# Altium footprint library e-lib.PcbLib: 11 footprints
Each footprint in its own frame and in the unit in brackets; x right, y up, seen from the top. Pads: shape width x height; smd on the part's side, far side on the other; paste and mask are expansions set on the pad; w line width, h text height; cw(c..) or ccw(c..) is an arc to the next point about the centre after c.
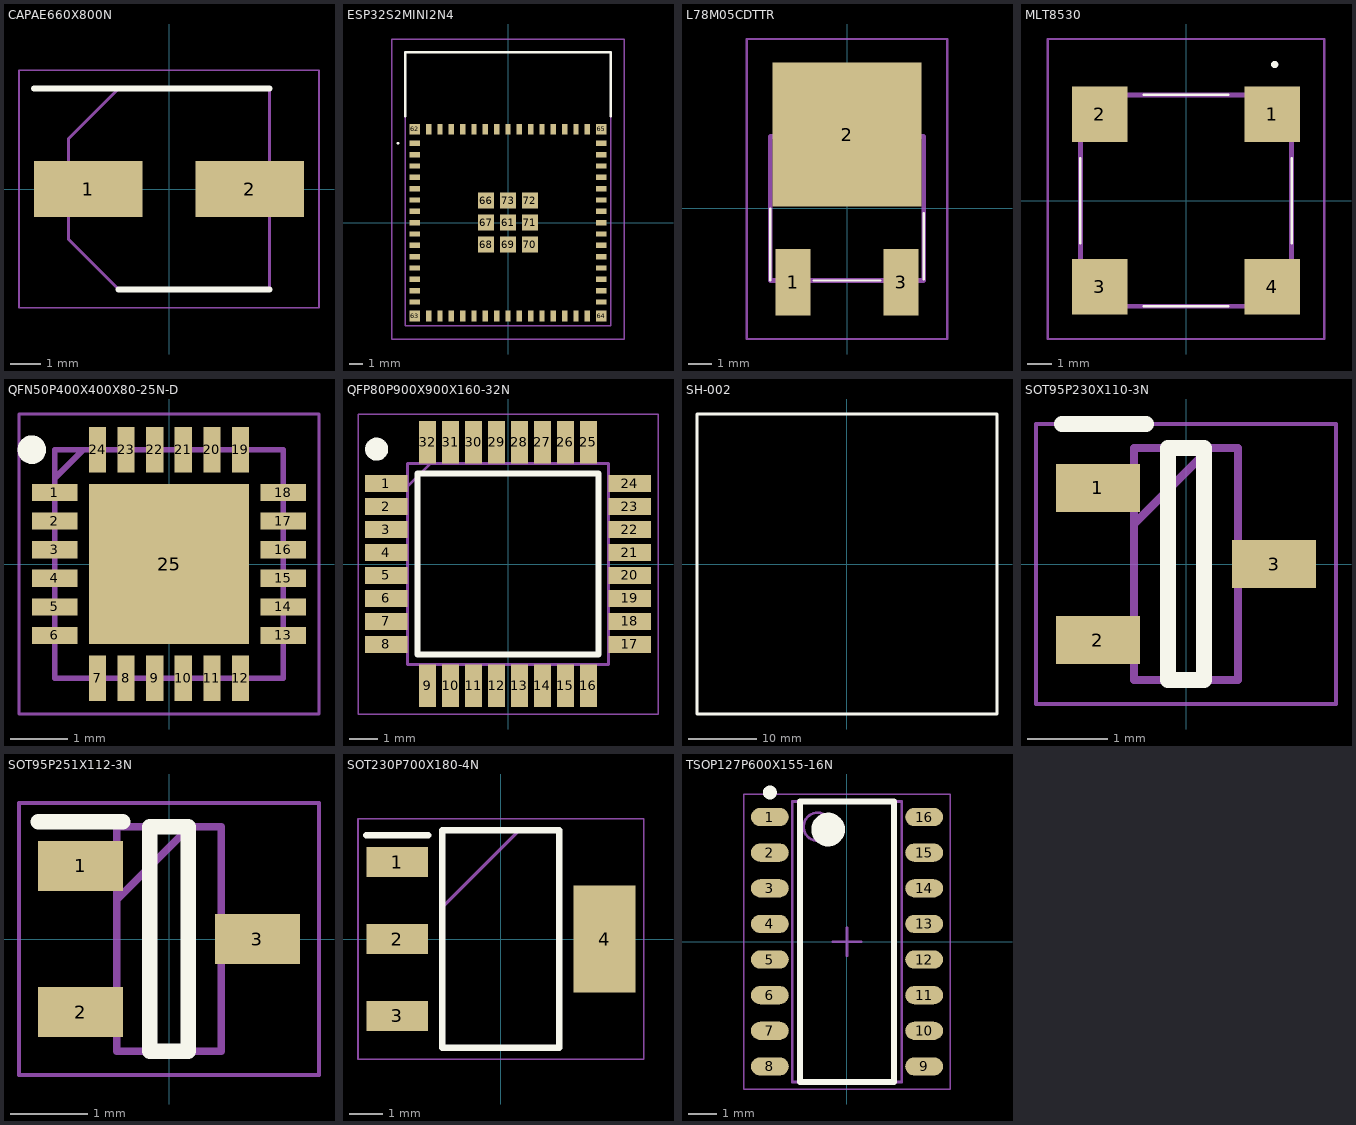
[diagram p0: the footprints below, top view; thin cyan lines are the x and y axes]

## CAPAE660X800N [mm]
pads (2):
  rect 3.55x1.85 smd: 1(-2.65,0) 2(2.65,0)
Top Overlay:
  lines w0.2: -4.425,3.3 3.3,3.3 ; -1.65,-3.3 3.3,-3.3
Mechanical 13:
  lines w0.1: -3.3,-1.65 -3.3,1.65 -1.65,3.3 3.3,3.3 3.3,-3.3 -1.65,-3.3 -3.3,-1.65
Mechanical 15:
  lines w0.05: -4.925,-3.9 4.925,-3.9 4.925,3.9 -4.925,3.9 -4.925,-3.9
3D body "VZH-470M1HTR-0607.stp": height 8, standoff 0, extent -3.7,-3.4 3.7,3.4

## ESP32S2MINI2N4 [mm]
pads (73):
  rect 0.8x0.4 smd: 1(-7,5.95) 2(-7,5.1) 3(-7,4.25) 4(-7,3.4) 5(-7,2.55) 6(-7,1.7) 7(-7,0.85) 8(-7,0) 9(-7,-0.85) 10(-7,-1.7) 11(-7,-2.55) 12(-7,-3.4) 13(-7,-4.25) 14(-7,-5.1) 15(-7,-5.95) 31(7,-5.95) 32(7,-5.1) 33(7,-4.25) 34(7,-3.4) 35(7,-2.55) 36(7,-1.7) 37(7,-0.85) 38(7,0) 39(7,0.85) 40(7,1.7) 41(7,2.55) 42(7,3.4) 43(7,4.25) 44(7,5.1) 45(7,5.95)
  rect 0.4x0.8 smd: 16(-5.95,-7) 17(-5.1,-7) 18(-4.25,-7) 19(-3.4,-7) 20(-2.55,-7) 21(-1.7,-7) 22(-0.85,-7) 23(0,-7) 24(0.85,-7) 25(1.7,-7) 26(2.55,-7) 27(3.4,-7) 28(4.25,-7) 29(5.1,-7) 30(5.95,-7) 46(5.95,7) 47(5.1,7) 48(4.25,7) 49(3.4,7) 50(2.55,7) 51(1.7,7) 52(0.85,7) 53(0,7) 54(-0.85,7) 55(-1.7,7) 56(-2.55,7) 57(-3.4,7) 58(-4.25,7) 59(-5.1,7) 60(-5.95,7)
  rect 1.2x1.2 smd: 61(0,0) 66(-1.65,1.65) 67(-1.65,0) 68(-1.65,-1.65) 69(0,-1.65) 70(1.65,-1.65) 71(1.65,0) 72(1.65,1.65) 73(0,1.65)
  rect 0.8x0.8 smd: 62(-7,7) 63(-7,-7) 64(7,-7) 65(7,7)
Top Overlay:
  lines w0.1: -8.3,5.95 cw(c-8.25,5.95) -8.2,5.95 cw(c-8.25,5.95) -8.3,5.95
  lines w0.2: -7.7,8 -7.7,12.775 7.7,12.775 7.7,8
Mechanical 13:
  lines w0.1: -7.7,-7.725 7.7,-7.725 7.7,12.775 -7.7,12.775 -7.7,-7.725
Mechanical 15:
  lines w0.1: -8.7,-8.725 8.7,-8.725 8.7,13.775 -8.7,13.775 -8.7,-8.725
3D body "ESP32-S2-MINI-2-N4.stp": height 2.41, standoff 0, extent -7.7,-7.73 7.7,12.77

## L78M05CDTTR [mm]
pads (3):
  rect 1.5x2.8 smd: 1(-2.286,-3.125) 3(2.286,-3.125)
  rect 6.3x6.1 smd: 2(0,3.125)
Top Overlay:
  lines w0.1: -3.25,-3.05 -3.25,0 ; -1.4,-3.05 1.4,-3.05 ; 3.25,-3 3.25,-0.2
Mechanical 13:
  lines w0.2: -3.25,-3.05 -3.25,3.05 3.25,3.05 3.25,-3.05 -3.25,-3.05
Mechanical 15:
  lines w0.1: -4.25,-5.525 -4.25,7.175 4.25,7.175 4.25,-5.525 -4.25,-5.525
3D body "L78M05CDT-TR.stp": height 3.24, standoff 0, extent -3.365,-4.385 3.365,6.04

## MLT8530 [mm]
pads (4):
  rect 2.3x2.3 smd: 1(3.55,3.55) 2(-3.55,3.55) 3(-3.55,-3.55) 4(3.55,-3.55)
Top Overlay:
  lines w0.1: -4.35,-1.75 -4.35,1.75 -4.35,-1.75 ; -1.75,-4.35 1.75,-4.35 -1.75,-4.35 ; -1.75,4.35 1.75,4.35 -1.75,4.35 ; 4.35,-1.75 4.35,1.75 4.35,-1.75
  lines w0.2: 3.6,5.6 ccw(c3.65,5.6) 3.7,5.6 ; 3.6,5.6 cw(c3.65,5.6) 3.7,5.6 ; 3.6,5.6 ccw(c3.65,5.6) 3.7,5.6
Mechanical 13:
  lines w0.2: -4.35,-4.35 -4.35,4.35 4.35,4.35 4.35,-4.35 -4.35,-4.35
Mechanical 15:
  lines w0.1: -5.7,-5.7 -5.7,6.65 5.7,6.65 5.7,-5.7 -5.7,-5.7
3D body "MLT-8530.stp": height 3.1, standoff 0, extent -4.47,-4.47 4.47,4.47

## QFN50P400X400X80-25N-D [mm]
pads (25):
  rect 0.8x0.3 smd: 1(-2,1.25) 2(-2,0.75) 3(-2,0.25) 4(-2,-0.25) 5(-2,-0.75) 6(-2,-1.25) 13(2,-1.25) 14(2,-0.75) 15(2,-0.25) 16(2,0.25) 17(2,0.75) 18(2,1.25)
  rect 0.3x0.8 smd: 7(-1.25,-2) 8(-0.75,-2) 9(-0.25,-2) 10(0.25,-2) 11(0.75,-2) 12(1.25,-2) 19(1.25,2) 20(0.75,2) 21(0.25,2) 22(-0.25,2) 23(-0.75,2) 24(-1.25,2)
  rect 2.8x2.8 smd: 25(0,0)
Top Overlay:
  circle w0.25: c-2.4,2 r0.125
Mechanical 13:
  lines w0.1: -2,1.5 -1.5,2 ; -2,-2 -2,2 2,2 2,-2 -2,-2
Mechanical 15:
  lines w0.05: -2.625,-2.625 -2.625,2.625 2.625,2.625 2.625,-2.625 -2.625,-2.625
3D body "CP2104-F03-GMR.stp": height 0.8, standoff 0, extent -2.05,-2.05 2.05,2.05

## QFP80P900X900X160-32N [mm]
pads (32):
  rect 1.475x0.6 smd: 1(-4.238,2.8) 2(-4.238,2) 3(-4.238,1.2) 4(-4.238,0.4) 5(-4.238,-0.4) 6(-4.238,-1.2) 7(-4.238,-2) 8(-4.238,-2.8) 17(4.238,-2.8) 18(4.238,-2) 19(4.238,-1.2) 20(4.238,-0.4) 21(4.238,0.4) 22(4.238,1.2) 23(4.238,2) 24(4.238,2.8)
  rect 0.6x1.475 smd: 9(-2.8,-4.238) 10(-2,-4.238) 11(-1.2,-4.238) 12(-0.4,-4.238) 13(0.4,-4.238) 14(1.2,-4.238) 15(2,-4.238) 16(2.8,-4.238) 25(2.8,4.238) 26(2,4.238) 27(1.2,4.238) 28(0.4,4.238) 29(-0.4,4.238) 30(-1.2,4.238) 31(-2,4.238) 32(-2.8,4.238)
Top Overlay:
  circle w0.4: c-4.575,4 r0.2
  lines w0.2: -3.15,-3.15 3.15,-3.15 3.15,3.15 -3.15,3.15 -3.15,-3.15
Mechanical 13:
  lines w0.1: -3.5,2.7 -2.7,3.5 ; -3.5,-3.5 3.5,-3.5 3.5,3.5 -3.5,3.5 -3.5,-3.5
Mechanical 15:
  lines w0.05: -5.225,-5.225 5.225,-5.225 5.225,5.225 -5.225,5.225 -5.225,-5.225
3D body "STM32F030K6T6.stp": height 1.6, standoff 0, extent -4.5,-4.5 4.5,4.5

## SH-002 [mm]
Top Overlay:
  lines w0.5: -22,-22 22,-22 22,22 -22,22 -22,-22
3D body "cooler.STEP": height 9.25, standoff 0, extent -22,-22 22,22

## SOT95P230X110-3N [mm]
pads (3):
  rect 1.05x0.6 smd: 1(-1.1,0.95) 2(-1.1,-0.95) 3(1.1,0)
Top Overlay:
  lines w0.2: -1.55,1.75 -0.5,1.75 ; -0.225,-1.45 -0.225,1.45 0.225,1.45 0.225,-1.45 -0.225,-1.45
Mechanical 13:
  lines w0.1: -0.65,0.5 0.3,1.45 ; -0.65,-1.45 -0.65,1.45 0.65,1.45 0.65,-1.45 -0.65,-1.45
Mechanical 15:
  lines w0.05: -1.875,-1.75 -1.875,1.75 1.875,1.75 1.875,-1.75 -1.875,-1.75
3D body "BSS138P,215.stp": height 0.95, standoff 0, extent -1.201,-1.448 1.199,1.452

## SOT95P251X112-3N [mm]
pads (3):
  rect 1.1x0.65 smd: 1(-1.15,0.95) 2(-1.15,-0.95) 3(1.15,0)
Top Overlay:
  lines w0.2: -1.7,1.525 -0.6,1.525 ; -0.25,-1.46 -0.25,1.46 0.25,1.46 0.25,-1.46 -0.25,-1.46
Mechanical 13:
  lines w0.1: -0.68,0.51 0.27,1.46 ; -0.68,-1.46 -0.68,1.46 0.68,1.46 0.68,-1.46 -0.68,-1.46
Mechanical 15:
  lines w0.05: -1.95,-1.77 -1.95,1.77 1.95,1.77 1.95,-1.77 -1.95,-1.77
3D body "FDN360P.stp": height 1.12, standoff 0, extent -1.255,-1.46 1.255,1.46

## SOT230P700X180-4N [mm]
pads (4):
  rect 1.85x0.9 smd: 1(-3.1,2.3) 2(-3.1,0) 3(-3.1,-2.3)
  rect 1.85x3.2 smd: 4(3.1,0)
Top Overlay:
  lines w0.2: -4.025,3.1 -2.175,3.1 ; -1.75,-3.25 -1.75,3.25 1.75,3.25 1.75,-3.25 -1.75,-3.25
Mechanical 13:
  lines w0.1: -1.75,0.95 0.55,3.25 ; -1.75,-3.25 -1.75,3.25 1.75,3.25 1.75,-3.25 -1.75,-3.25
Mechanical 15:
  lines w0.05: -4.275,-3.6 -4.275,3.6 4.275,3.6 4.275,-3.6 -4.275,-3.6
3D body "AZ1117CH-3.3TRG1.stp": height 1.8, standoff 0, extent -3.5,-3.25 3.5,3.25

## TSOP127P600X155-16N [mm] "TSOP, 16-Leads, Body 10.00x3.90mm, Pitch 1.27mm, IPC Medium Density"
height 1.55
pads (16):
  oval 1.35x0.65 smd: 1(-2.75,4.445) 2(-2.75,3.175) 3(-2.75,1.905) 4(-2.75,0.635) 5(-2.75,-0.635) 6(-2.75,-1.905) 7(-2.75,-3.175) 8(-2.75,-4.445) 9(2.75,-4.445) 10(2.75,-3.175) 11(2.75,-1.905) 12(2.75,-0.635) 13(2.75,0.635) 14(2.75,1.905) 15(2.75,3.175) 16(2.75,4.445)
Top Overlay:
  circle w0.6: c-0.675,4 r0.3
  circle w0.25: c-2.75,5.32 r0.125
  lines w0.2: -1.675,-5 1.675,-5 1.675,5 -1.675,5 -1.675,-5
Mechanical 13:
  circle w0.1: c-1.05,4.1 r0.5
  lines w0.1: -1.95,-5 1.95,-5 1.95,5 -1.95,5 -1.95,-5
Mechanical 15:
  lines w0.05: -3.675,-5.25 3.675,-5.25 3.675,5.25 -3.675,5.25 -3.675,-5.25
  lines w0.1: -0.5,0 0.5,0 ; 0,-0.5 0,0.5
3D body "TSOP127P600X155-16N.step": height 1.55, standoff 0, extent -3,-5 3,5